# Altium footprint library PCB_C70005-A2.PcbLib: 21 footprints (part 2 of 2)
Each footprint in its own frame and in the unit in brackets; x right, y up, seen from the top. Pads: shape width x height; smd on the part's side, far side on the other; paste and mask are expansions set on the pad; w line width, h text height; cw(c..) or ccw(c..) is an arc to the next point about the centre after c.
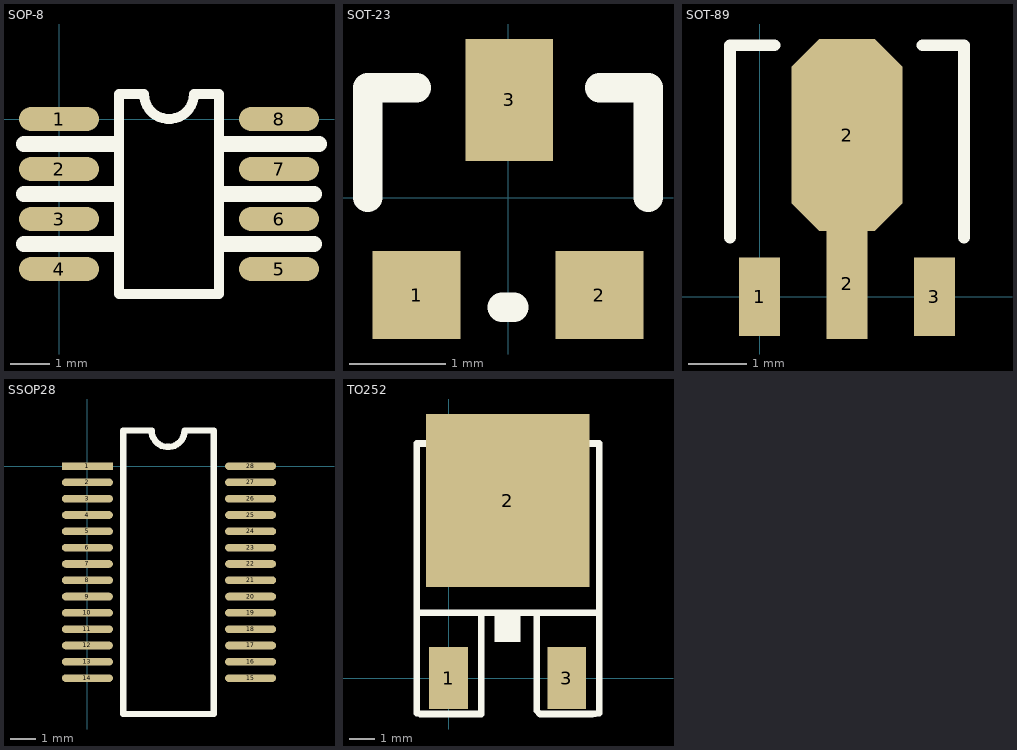
[diagram p1: the footprints below, top view; thin cyan lines are the x and y axes]

## SOP-8 [mil]
pads (8):
  oval 80x24 smd: 1(0,0) 2(0.02,-50) 3(0,-100) 4(0,-150) 5(220,-150) 6(220,-100) 7(220,-50) 8(220,0)
Top Overlay:
  lines w10: 60,-175 60,25 85,25 ccw(c110,25) 135,25 160,25 160,-175 60,-175
  lines w15.75: -35,-125 54,-125 ; -35,-75 54,-75 ; -35,-25 56,-25 ; 164,-75 255,-75 ; 165,-125 255,-125 ; 166,-25 260,-25

## SOT-23 [mil]
height 27.56
pads (3):
  rect 36x36 smd: 1(-37.5,-40) 2(37.5,-40)
  rect 36x50 smd: 3(0.5,40)
Top Overlay:
  lines w12: -57.5,0 -57.5,45 -37.5,45 ; -2.5,-45 2.5,-45 ; 37.5,45 57.5,45 57.5,0

## SOT-89 [mm]
pads (4):
  rect 0.7x1.35 smd: 1(0,0) 3(3,0)
  rect 0.7x1.9 smd: 2(1.5,0.225)
  oct 1.9x3.3 smd: 2(1.5,2.775)
Top Overlay:
  lines w0.203: -0.508,1.016 -0.508,4.318 0.254,4.318 ; 2.794,4.318 3.508,4.318 3.508,1.016

## SSOP28 [mm]
height 1.6
pads (28):
  rect 2x0.3 smd: 1(0,0)
  oval 2x0.3 smd: 2(0,-0.64) 3(0,-1.28) 4(0,-1.92) 5(0,-2.56) 6(0,-3.2) 7(0,-3.84) 8(0,-4.48) 9(0,-5.12) 10(0,-5.76) 11(0,-6.4) 12(0,-7.04) 13(0,-7.68) 14(0,-8.32) 15(6.4,-8.32) 16(6.4,-7.68) 17(6.4,-7.04) 18(6.4,-6.4) 19(6.4,-5.76) 20(6.4,-5.12) 21(6.4,-4.48) 22(6.4,-3.84) 23(6.4,-3.2) 24(6.4,-2.56) 25(6.4,-1.92) 26(6.4,-1.28) 27(6.4,-0.64) 28(6.4,0)
Top Overlay:
  lines w0.254: 1.397,-9.728 4.953,-9.728 4.953,1.143 4.953,1.397 3.81,1.397 cw(c3.162,1.397) 2.515,1.397 1.397,1.397 1.397,-9.728

## TO252 [mm]
pads (3):
  rect 1.5x2.4 smd: 1(0,0) 3(4.6,0)
  rect 6.35x6.73 smd: 2(2.3,6.9)
Top Overlay:
  rectangle: 1.778,1.397 2.794,2.413
  lines w0.254: -1.143,2.54 5.867,2.54 ; -0.889,9.119 -1.118,9.119 -1.245,9.119 -1.245,-1.372 -1.092,-1.397 1.016,-1.397 1.27,-1.397 1.27,2.54 ; 3.429,2.54 3.429,-1.27 3.556,-1.397 5.588,-1.397 5.867,-1.372 5.867,9.119 5.613,9.119 5.385,9.119